# Altium footprint library mega.PcbLib: 1 footprints
Each footprint in its own frame and in the unit in brackets; x right, y up, seen from the top. Pads: shape width x height; smd on the part's side, far side on the other; paste and mask are expansions set on the pad; w line width, h text height; cw(c..) or ccw(c..) is an arc to the next point about the centre after c.
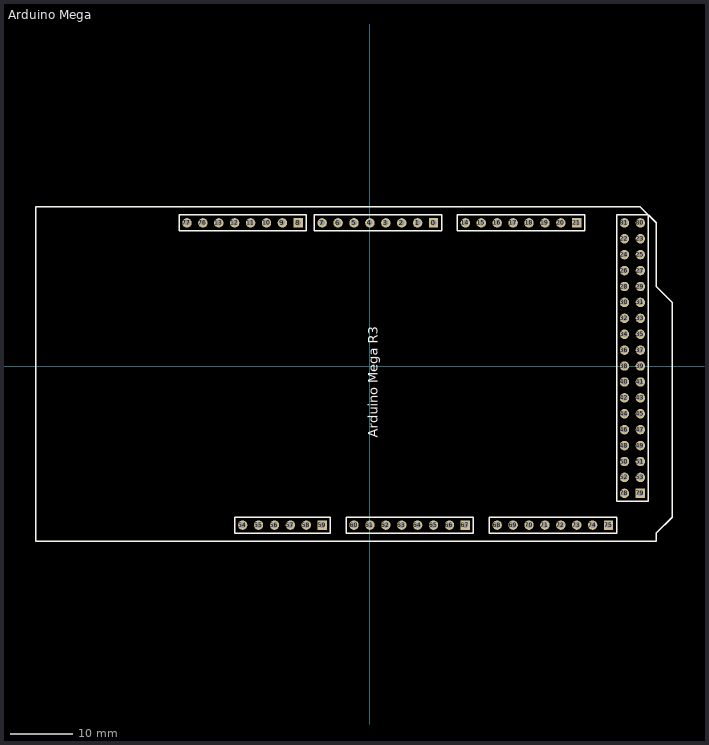
[diagram p0: the footprint, top view; thin cyan lines are the x and y axes]

## Arduino Mega [mm] "Arduino Mega 2560"
pads (82):
  rect 1.5x1.5 hole 0.9: 0(10.16,22.86) 8(-11.43,22.86) 21(33.02,22.86) 59(-7.62,-25.4) 67(15.24,-25.4) 75(38.1,-25.4) 79(43.18,-20.32)
  round 1.5 hole 0.9: 1(7.62,22.86) 2(5.08,22.86) 3(2.54,22.86) 4(0,22.86) 5(-2.54,22.86) 6(-5.08,22.86) 7(-7.62,22.86) 9(-13.97,22.86) 10(-16.51,22.86) 11(-19.05,22.86) 12(-21.59,22.86) 13(-24.13,22.86) 14(15.24,22.86) 15(17.78,22.86) 16(20.32,22.86) 17(22.86,22.86) 18(25.4,22.86) 19(27.94,22.86) 20(30.48,22.86) 22(40.64,20.32) 23(43.18,20.32) 24(40.64,17.78) 25(43.18,17.78) 26(40.64,15.24) 27(43.18,15.24) 28(40.64,12.7) 29(43.18,12.7) 30(40.64,10.16) 31(43.18,10.16) 32(40.64,7.62) 33(43.18,7.62) 34(40.64,5.08) 35(43.18,5.08) 36(40.64,2.54) 37(43.18,2.54) 38(40.64,0) 39(43.18,0) 40(40.64,-2.54) 41(43.18,-2.54) 42(40.64,-5.08) 43(43.18,-5.08) 44(40.64,-7.62) 45(43.18,-7.62) 46(40.64,-10.16) 47(43.18,-10.16) 48(40.64,-12.7) 49(43.18,-12.7) 50(40.64,-15.24) 51(43.18,-15.24) 52(40.64,-17.78) 53(43.18,-17.78) 54(-20.32,-25.4) 55(-17.78,-25.4) 56(-15.24,-25.4) 57(-12.7,-25.4) 58(-10.16,-25.4) 60(-2.54,-25.4) 61(0,-25.4) 62(2.54,-25.4) 63(5.08,-25.4) 64(7.62,-25.4) 65(10.16,-25.4) 66(12.7,-25.4) 68(20.32,-25.4) 69(22.86,-25.4) 70(25.4,-25.4) 71(27.94,-25.4) 72(30.48,-25.4) 73(33.02,-25.4) 74(35.56,-25.4) 76(-26.67,22.86) 77(-29.21,22.86) 78(40.64,-20.32) 80(43.18,22.86) 81(40.64,22.86)
Top Overlay:
  lines w0.2: -30.48,21.59 -10.16,21.59 -10.16,24.13 -30.48,24.13 -30.48,21.59 ; -21.59,-26.67 -21.59,-24.13 -6.35,-24.13 -6.35,-26.67 -21.59,-26.67 ; -8.89,21.59 11.43,21.59 11.43,24.13 -8.89,24.13 -8.89,21.59 ; -3.81,-26.67 16.51,-26.67 16.51,-24.13 -3.81,-24.13 -3.81,-26.67 ; 13.97,21.59 13.97,24.13 34.29,24.13 34.29,21.59 13.97,21.59 ; 19.05,-26.67 39.37,-26.67 39.37,-24.13 19.05,-24.13 19.05,-26.67 ; 39.37,-21.59 44.45,-21.59 44.45,24.13 39.37,24.13 39.37,-21.59
  lines w0.254: 45.72,12.69 48.26,10.15 48.26,-24.13 45.72,-26.67 45.72,-27.94 -51.7,-27.94 -53.34,-27.94 -53.34,-26.3 -53.34,25.4 43.18,25.4 45.72,22.86 45.72,12.7
  text "Arduino Mega R3" at 1.27,-11.43 h1.52